# Altium footprint library CI156M1V60-NH.PcbLib: 1 footprints
Each footprint in its own frame and in the unit in brackets; x right, y up, seen from the top. Pads: shape width x height; smd on the part's side, far side on the other; paste and mask are expansions set on the pad; w line width, h text height; cw(c..) or ccw(c..) is an arc to the next point about the centre after c.
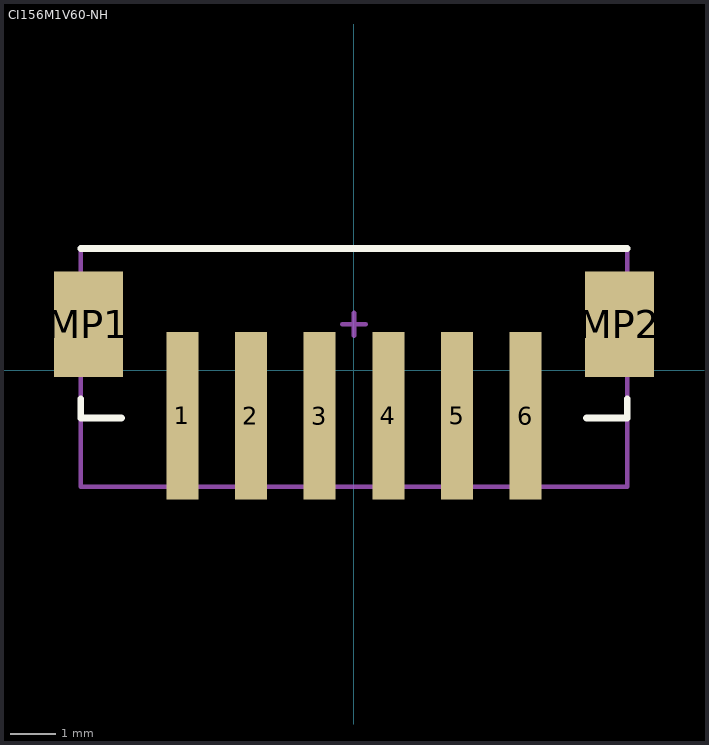
[diagram p0: the footprint, top view; thin cyan lines are the x and y axes]

## CI156M1V60-NH [mm]
pads (8):
  rect 0.7x3.65 smd: 1(-3.75,-1) 2(-2.25,-1) 3(-0.75,-1) 4(0.75,-1) 5(2.25,-1) 6(3.75,-1)
  rect 1.5x2.3 smd: MP1(-5.8,1) MP2(5.8,1)
Top Overlay:
  lines w0.15: -5.969,-0.635 -5.969,-1.049 -5.08,-1.049 ; -5.969,2.651 5.969,2.651 ; 5.08,-1.049 5.969,-1.049 5.969,-0.635
Mechanical 13:
  lines w0.1: -5.969,-2.549 5.969,-2.549 5.969,2.651 -5.969,2.651 -5.969,-2.549
Mechanical 15:
  lines w0.1: -0.254,1 0.254,1 ; 0,0.746 0,1.254
3D body: height 5, standoff 0, extent -6,-2.549 6,2.651